# EAGLE library part NCP3170ADR2G (library KVB-ICs)
Buck Switching Regulator IC Positive Adjustable 0.8V 1 Output 3A 8-SOIC (0.154", 3.90mm Width)
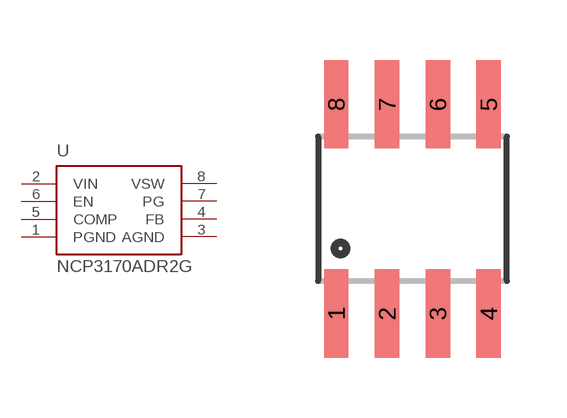
[diagram p1: symbol with the pads of NCP3170ADR2G; footprint NCP3170ADR2G]

Designator prefix U

## NCP3170ADR2G (MAN-PART_NUM: NCP3170ADR2G; MANUFACTURER: ON Semiconductor)  [NCP3170ADR2G]
1  PGND
2  VIN
3  AGND
4  FB
5  COMP
6  EN
7  PG
8  VSW

## Footprint NCP3170ADR2G (pad centres in mm)
smd 0.61 x 2.21: 1 -1.905,-2.616; 2 -0.635,-2.616; 3 0.635,-2.616; 4 1.905,-2.616; 5 1.905,2.616; 6 0.635,2.616; 7 -0.635,2.616; 8 -1.905,2.616